# Altium schematic symbol library ESP8266_SHIELD.SchLib: 1 symbol
Pins are listed as number, name and electrical type; pins without a type are passive.

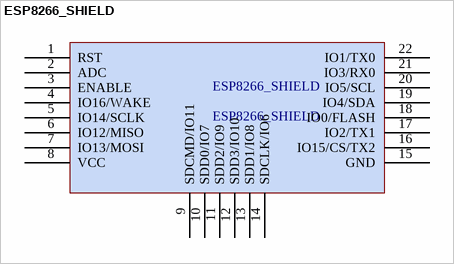
[diagram p0: symbol ESP8266_SHIELD]

## ESP8266_SHIELD
designator ESP8266_SHIELD
footprint ESP8266_SHIELD
pins: 1 RST, 2 ADC, 3 ENABLE, 4 IO16/WAKE, 5 IO14/SCLK, 6 IO12/MISO, 7 IO13/MOSI, 8 VCC, 9 SDCMD/IO11, 10 SDD0/IO7, 11 SDD2/IO9, 12 SDD3/IO10, 13 SDD1/IO8, 14 SDCLK/IO6, 15 GND, 16 IO15/CS/TX2, 17 IO2/TX1, 18 IO0/FLASH, 19 IO4/SDA, 20 IO5/SCL, 21 IO3/RX0, 22 IO1/TX0